# Altium footprint library Switches.PcbLib: 5 footprints
Each footprint in its own frame and in the unit in brackets; x right, y up, seen from the top. Pads: shape width x height; smd on the part's side, far side on the other; paste and mask are expansions set on the pad; w line width, h text height; cw(c..) or ccw(c..) is an arc to the next point about the centre after c.
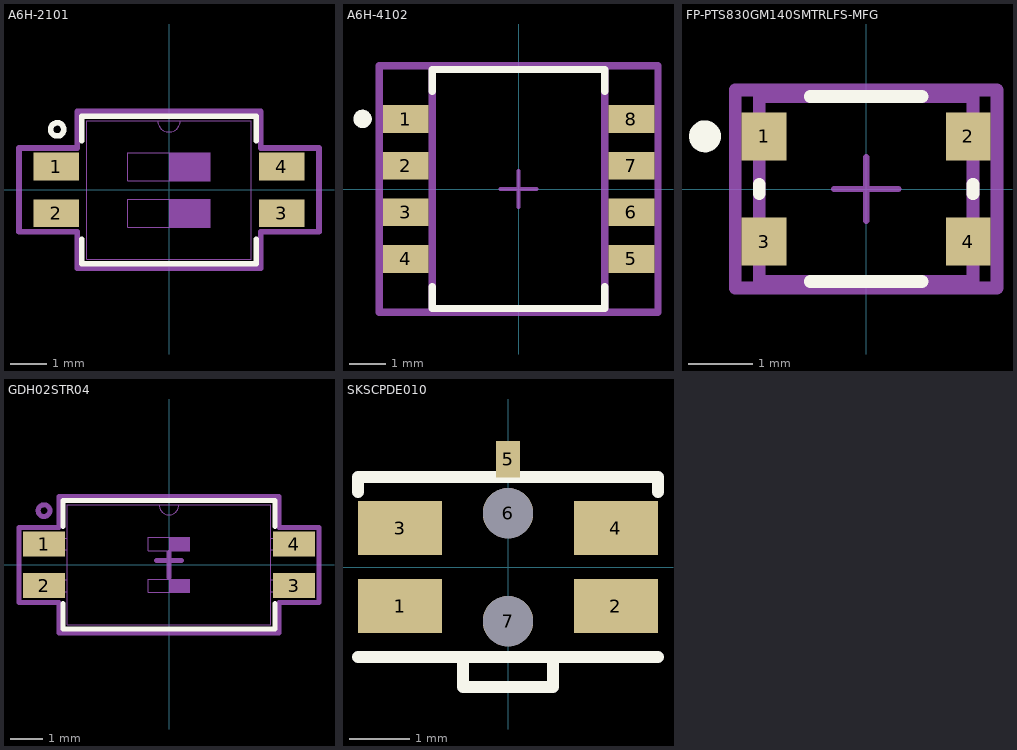
[diagram p0: the footprints below, top view; thin cyan lines are the x and y axes]

## A6H-2101 [mm]
pads (4):
  rect 1.25x0.76 smd paste+0 mask+0: 1(-3.075,0.635) 2(-3.075,-0.635) 3(3.075,-0.635) 4(3.075,0.635)
Top Overlay:
  circle w0.15: c-3.048,1.651 r0.18
  lines w0.152: -2.377,-1.34 -2.377,-2.012 2.377,-2.012 2.377,-1.34 ; -2.377,1.34 -2.377,2.012 2.377,2.012 2.377,1.34
Mechanical 13:
  region: 0,0.255 0,1.015 1.125,1.015 1.125,0.255
  region: 0,-1.015 0,-0.255 1.125,-0.255 1.125,-1.015
  lines w0: -0.305,1.885 ccw(c0,1.885) 0.305,1.885
  lines w0.025: -2.25,-1.885 2.25,-1.885 2.25,1.885 -2.25,1.885 -2.25,-1.885 ; -1.125,-1.015 1.125,-1.015 1.125,-0.255 -1.125,-0.255 -1.125,-1.015 ; -1.125,0.255 1.125,0.255 1.125,1.015 -1.125,1.015 -1.125,0.255
Mechanical 15:
  lines w0.152: -4.091,-1.143 -2.504,-1.143 -2.504,-2.139 2.504,-2.139 2.504,-1.143 4.091,-1.143 4.091,1.143 2.504,1.143 2.504,2.139 -2.504,2.139 -2.504,1.143 -4.091,1.143 -4.091,-1.143
3D body: height 0.25, standoff 0, extent 0,0 0.254,0.254
3D body "A6H_2101.step": height 1.55, standoff 0, extent -3.35,-1.885 3.35,1.885

## A6H-4102 [mm]
pads (8):
  rect 1.25x0.76 smd paste+0 mask+0: 1(-3.075,1.905) 2(-3.075,0.635) 3(-3.075,-0.635) 4(-3.075,-1.905) 5(3.075,-1.905) 6(3.075,-0.635) 7(3.075,0.635) 8(3.075,1.905)
Top Overlay:
  circle w0.25: c-4.25,1.91 r0.125
  lines w0.2: -2.35,-2.66 -2.35,-3.255 2.35,-3.255 2.35,-2.66 ; -2.35,2.66 -2.35,3.255 2.35,3.255 2.35,2.66
Top 3D Body:
  lines w0.2: -2.35,-3.255 -2.35,3.255 2.35,3.255 2.35,-3.255 -2.35,-3.255
Top Assembly:
  lines w0.2: -3.8,-3.355 -3.8,3.355 3.8,3.355 3.8,-3.355 -3.8,-3.355
Top Courtyard:
  lines w0.2: -3.8,-3.355 -3.8,3.355 3.8,3.355 3.8,-3.355 -3.8,-3.355
Top Component Center:
  lines w0.1: -0.5,0 0.5,0 ; 0,-0.5 0,0.5
3D body "Switch_Omron_A6H-4102-PM_eec.STEP": height 0.25, standoff 0, extent -3.8,-3.355 3.8,3.355

## FP-PTS830GM140SMTRLFS-MFG [mm]
pads (4):
  rect 0.7x0.75 smd paste+0 mask+0: 1(-1.6,0.825) 2(1.6,0.825) 3(-1.6,-0.825) 4(1.6,-0.825)
Top Overlay:
  circle w0.25: c-2.525,0.825 r0.125
  lines w0.2: -1.675,-0.075 -1.675,0.075 ; -0.875,-1.45 0.875,-1.45 ; -0.875,1.45 0.875,1.45 ; 1.675,-0.075 1.675,0.075
Top 3D Body:
  lines w0.2: -1.675,-1.45 -1.675,1.45 1.675,1.45 1.675,-1.45 -1.675,-1.45
Top Assembly:
  lines w0.2: -2.05,-1.55 -2.05,1.55 2.05,1.55 2.05,-1.55 -2.05,-1.55
Top Courtyard:
  lines w0.2: -2.05,-1.55 -2.05,1.55 2.05,1.55 2.05,-1.55 -2.05,-1.55
Top Component Center:
  lines w0.1: -0.5,0 0.5,0 ; 0,-0.5 0,0.5
3D body "Switch_C&K_Components_PTS830GM140SMTRLFS_eec.STEP": height 0.25, standoff 0, extent -2.05,-1.55 2.05,1.55

## GDH02STR04 [mil] "Dip switch 2pos LP"
pads (4):
  rect 50x30 smd paste+0 mask+0: 1(-150,25) 2(-150,-25) 3(150,-25) 4(150,25)
Top Overlay:
  lines w6: -127,-46.1 -127,-77 127,-77 127,-46.1 ; -127,46.1 -127,77 127,77 127,46.1
Top Courtyard:
  circle w5.91: c-150,65 r7.07
Mechanical 13:
  region: 0,-33 0,-17 25,-17 25,-33
  region: 0,17 0,33 25,33 25,17
  lines w0: -12,72 ccw(c0,72) 12,72
  lines w1: -160,-32 -122,-32 -122,-18 -160,-18 -160,-32 ; -160,18 -122,18 -122,32 -160,32 -160,18 ; -122,-72 -122,72 122,72 122,-72 -122,-72 ; -25,-33 -25,-17 25,-17 25,-33 -25,-33 ; -25,17 -25,33 25,33 25,17 -25,17 ; 122,-32 160,-32 160,-18 122,-18 122,-32 ; 122,18 160,18 160,32 122,32 122,18
Mechanical 15:
  lines w6: -15,5 15,5 ; 0,-15 0,15 ; -180,-45 -180,45 -132,45 -132,82 132,82 132,45 180,45 180,-45 132,-45 132,-82 -132,-82 -132,-45 -180,-45
3D body "c-1571983-03-b-3d.stp": height 90.65, standoff -0.35, extent -160,-72 160,72

## SKSCPDE010 [mm]
pads (7):
  rect 1.4x0.9 smd: 1(-1.8,-0.65) 2(1.8,-0.65) 3(-1.8,0.65) 4(1.8,0.65)
  rect 0.406x0.61 smd: 5(0,1.8)
  round 0.838 hole 0.838 unplated: 6(0,0.9) 7(0,-0.9)
Top Overlay:
  lines w0.2: -2.5,-1.5 2.5,-1.5 ; -2.5,1.25 -2.5,1.5 2.5,1.5 2.5,1.25 ; -0.75,-1.5 -0.75,-2 0.75,-2 0.75,-1.5
3D body "SKSCLC.STEP": height 1.27, standoff 0, extent -2.425,-2.105 2.425,1.46